# EAGLE library part ISP (library Robotik-Connectors)
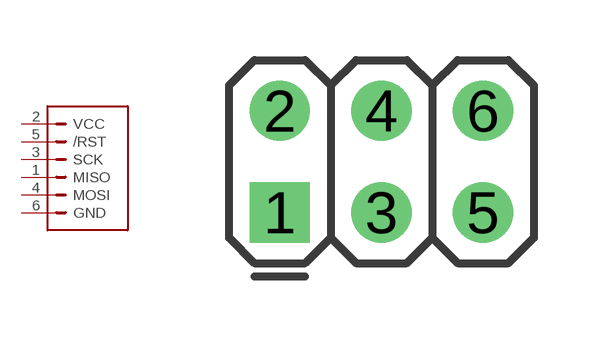
[diagram p1: symbol with the pads of CON_2X3; footprint CON_2X3]

Designator prefix -

## ISP  [CON_2X3]
1  MISO
2  VCC
3  SCK
4  MOSI
5  /RST
6  GND

## Footprint CON_2X3 (pad centres in mm)
drill 1 square: 1 0,0
drill 1: 2 0,2.54; 3 2.54,0; 4 2.54,2.54; 5 5.08,0; 6 5.08,2.54